# Altium schematic symbol library XL_CRYSTAL.SchLib: 2 symbols
Pins are listed as number, name and electrical type; pins without a type are passive.

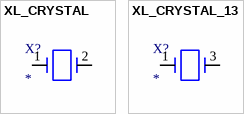
[diagram p0: symbols XL_CRYSTAL to XL_CRYSTAL_13]

## XL_CRYSTAL
designator X?
pins: 1, 2

## XL_CRYSTAL_13
designator X?
pins: 1, 3